# EAGLE library part OSTTA120161 (library OSTTA120161)
TERM BLK 12P SIDE ENTRY 5MM PCB
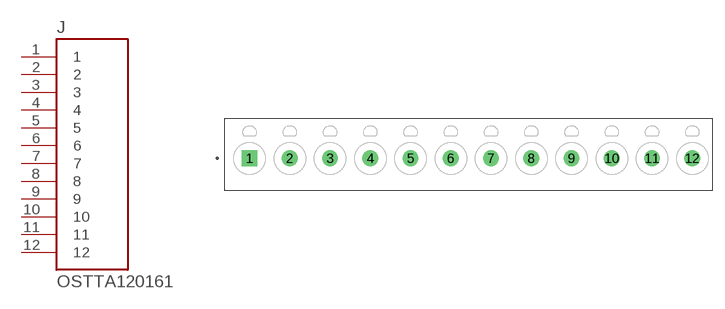
[diagram p0: symbol with the pads of ONSHORE_OSTTA120161; footprint ONSHORE_OSTTA120161]

Designator prefix J

## OSTTA120161 (AVAILABILITY: Unavailable; DESCRIPTION: TERM BLK 12P SIDE ENTRY 5MM PCB; MF: On Shore Technology Inc.; MP: OSTTA120161B; PACKAGE: None; PRICE: None)  [ONSHORE_OSTTA120161]
1  1  pas
2  2  pas
3  3  pas
4  4  pas
5  5  pas
6  6  pas
7  7  pas
8  8  pas
9  9  pas
10  10  pas
11  11  pas
12  12  pas

## Footprint ONSHORE_OSTTA120161 (pad centres in mm)
drill 1.3 square: 1 0,0
drill 1.3: 2 5,0; 3 10,0; 4 15,0; 5 20,0; 6 25,0; 7 30,0; 8 35,0; 9 40,0; 10 45,0; 11 50,0; 12 55,0